# Altium footprint library MCP4726Ax.PcbLib: 3 footprints
Each footprint in its own frame and in the unit in brackets; x right, y up, seen from the top. Pads: shape width x height; smd on the part's side, far side on the other; paste and mask are expansions set on the pad; w line width, h text height; cw(c..) or ccw(c..) is an arc to the next point about the centre after c.
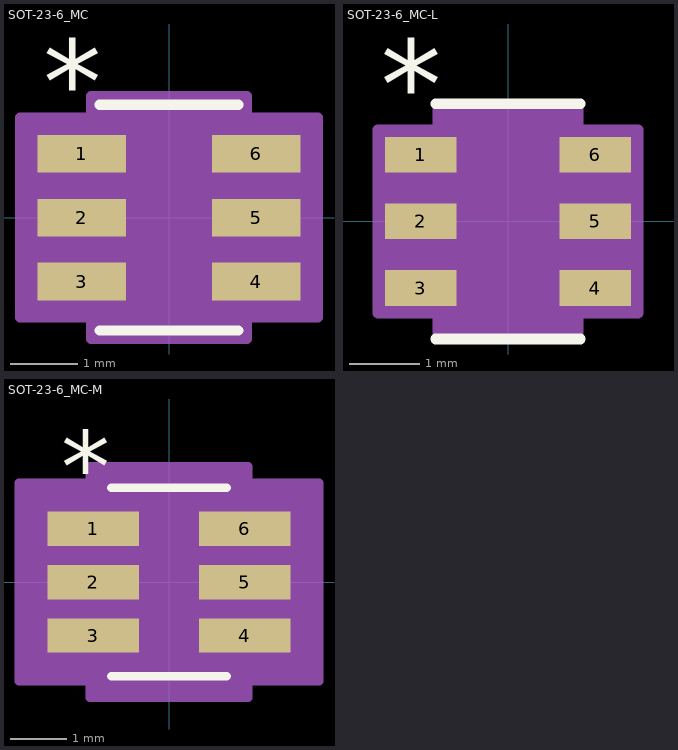
[diagram p0: the footprints below, top view; thin cyan lines are the x and y axes]

## SOT-23-6_MC [mil]
pads (6):
  rect 52x22 smd paste+0 mask+0: 1(-51,37.4) 2(-51,0) 3(-51,-37.4) 4(51,-37.4) 5(51,0) 6(51,37.4)
Top Overlay:
  lines w6: -40.5,-66 40.5,-66 ; -40.5,66 40.5,66
  text "*" at -73.5,54.4 h50
Mechanical 13:
  lines w0: -12,61 ccw(c0,61) 12,61
  lines w1: -63,-47.4 -35.5,-47.4 -35.5,-27.4 -63,-27.4 -63,-47.4 ; -63,-10 -35.5,-10 -35.5,10 -63,10 -63,-10 ; -63,27.4 -35.5,27.4 -35.5,47.4 -63,47.4 -63,27.4 ; -35.5,-61 -35.5,61 35.5,61 35.5,-61 -35.5,-61 ; 35.5,-47.4 63,-47.4 63,-27.4 35.5,-27.4 35.5,-47.4 ; 35.5,-10 63,-10 63,10 35.5,10 35.5,-10 ; 35.5,27.4 63,27.4 63,47.4 35.5,47.4 35.5,27.4
  text "*" at -33,8 h50
Mechanical 15:
  region: -45.5,-58.4 -87,-58.4 -87,58.4 -45.5,58.4 -45.5,71 45.5,71 45.5,58.4 87,58.4 87,-58.4 45.5,-58.4 45.5,-71 -45.5,-71
  lines w6: -87,-58.4 -45.5,-58.4 -45.5,-71 45.5,-71 45.5,-58.4 87,-58.4 87,58.4 45.5,58.4 45.5,71 -45.5,71 -45.5,58.4 -87,58.4 -87,-58.4
3D body "SOT-23-6_MC.stp": height 57.2, standoff 0, extent -62.98,-60.98 63,60.99
3D body: height 10, standoff 0, extent 0,0 10,10

## SOT-23-6_MC-L [mil]
pads (6):
  rect 40x20 smd paste+0 mask+0: 1(-49,37.4) 2(-49,0) 3(-49,-37.4) 4(49,-37.4) 5(49,0) 6(49,37.4)
Top Overlay:
  lines w6: -40.5,-66 40.5,-66 ; -40.5,66 40.5,66
  text "*" at -71.5,52.4 h50
Mechanical 13:
  lines w0: -12,61 ccw(c0,61) 12,61
  lines w1: -63,-47.4 -63,-27.4 -35.5,-27.4 -35.5,-47.4 -63,-47.4 ; -63,-10 -63,10 -35.5,10 -35.5,-10 -63,-10 ; -63,27.4 -63,47.4 -35.5,47.4 -35.5,27.4 -63,27.4 ; -35.5,-61 35.5,-61 35.5,61 -35.5,61 -35.5,-61 ; 35.5,-47.4 35.5,-27.4 63,-27.4 63,-47.4 35.5,-47.4 ; 35.5,-10 35.5,10 63,10 63,-10 35.5,-10 ; 35.5,27.4 35.5,47.4 63,47.4 63,27.4 35.5,27.4
  text "*" at -33,8 h50
Mechanical 15:
  region: -39.5,-51.4 -73,-51.4 -73,51.4 -39.5,51.4 -39.5,65 39.5,65 39.5,51.4 73,51.4 73,-51.4 39.5,-51.4 39.5,-65 -39.5,-65
  lines w6: -73,-51.4 -73,51.4 -39.5,51.4 -39.5,65 39.5,65 39.5,51.4 73,51.4 73,-51.4 39.5,-51.4 39.5,-65 -39.5,-65 -39.5,-51.4 -73,-51.4
3D body: height 10, standoff 0, extent 0,0 10,10

## SOT-23-6_MC-M [mil]
pads (6):
  rect 64x24 smd paste+0 mask+0: 1(-53,37.4) 2(-53,0) 3(-53,-37.4) 4(53,-37.4) 5(53,0) 6(53,37.4)
Top Overlay:
  lines w6: -40.5,-66 40.5,-66 ; -40.5,66 40.5,66
  text "*" at -75.5,56.4 h50
Mechanical 13:
  lines w0: -12,61 ccw(c0,61) 12,61
  lines w1: -63,-47.4 -63,-27.4 -35.5,-27.4 -35.5,-47.4 -63,-47.4 ; -63,-10 -63,10 -35.5,10 -35.5,-10 -63,-10 ; -63,27.4 -63,47.4 -35.5,47.4 -35.5,27.4 -63,27.4 ; -35.5,-61 35.5,-61 35.5,61 -35.5,61 -35.5,-61 ; 35.5,-47.4 35.5,-27.4 63,-27.4 63,-47.4 35.5,-47.4 ; 35.5,-10 35.5,10 63,10 63,-10 35.5,-10 ; 35.5,27.4 35.5,47.4 63,47.4 63,27.4 35.5,27.4
  text "*" at -33,8 h50
Mechanical 15:
  region: -55.5,-69.4 -105,-69.4 -105,69.4 -55.5,69.4 -55.5,81 55.5,81 55.5,69.4 105,69.4 105,-69.4 55.5,-69.4 55.5,-81 -55.5,-81
  lines w6: -105,-69.4 -105,69.4 -55.5,69.4 -55.5,81 55.5,81 55.5,69.4 105,69.4 105,-69.4 55.5,-69.4 55.5,-81 -55.5,-81 -55.5,-69.4 -105,-69.4
3D body: height 10, standoff 0, extent 0,0 10,10